# EAGLE library part BELA_CAPELET (library bela_capelet - Rebel Modified)
Should match A3 pinout - but not completely tested
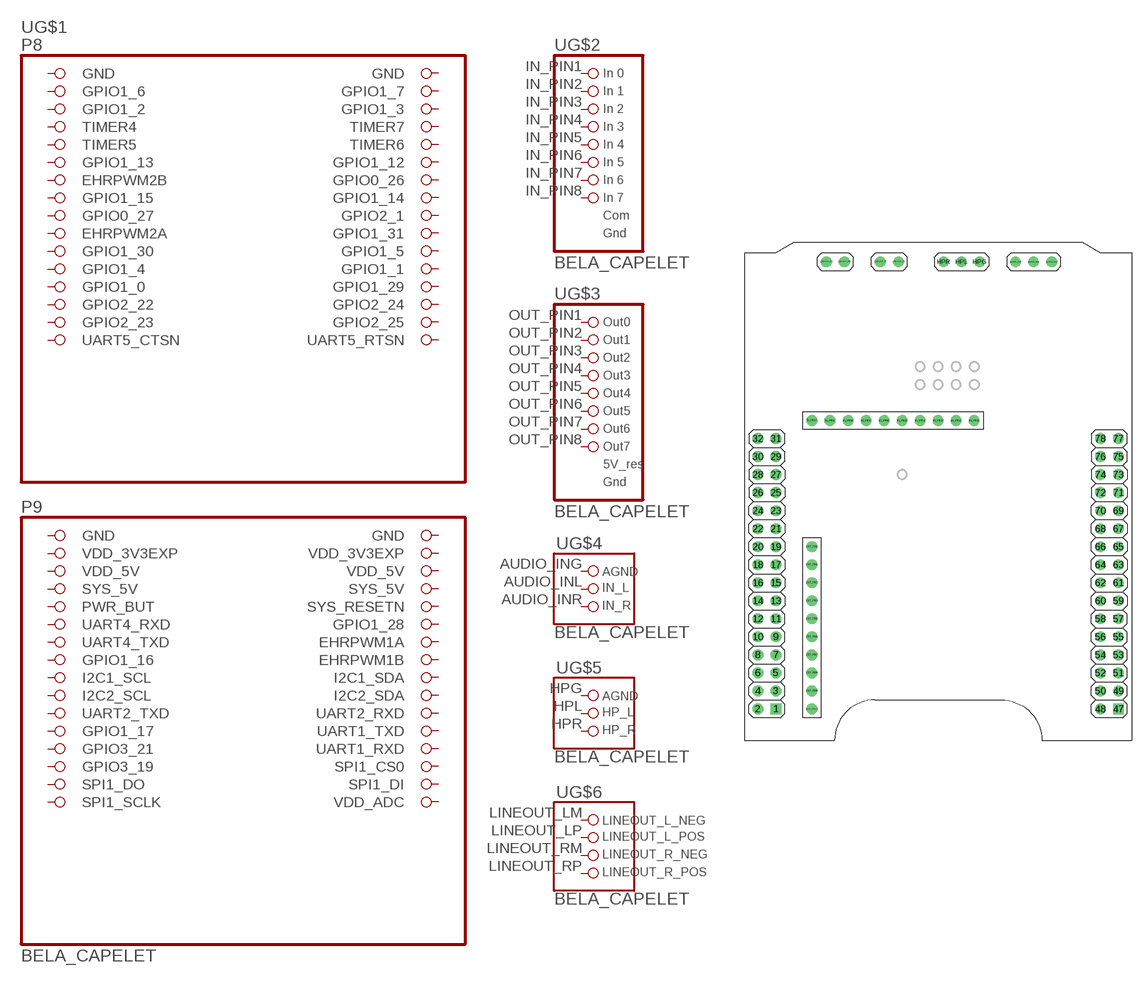
[diagram p0: symbol with the pads of BELA_CAPELET_EXTENDED_OUTLINE; footprint BELA_CAPELET_EXTENDED_OUTLINE]

Designator prefix -; gates G$1=BEAGLEBONE-1 G$2=BELA_ANALOGIN G$3=BELA_ANALOGOUT G$4=BELA_AUDIOIN G$5=BELA_HPOUT G$6=BELA_LINEOUT

## BELA_CAPELET_EXT_OUTLINE  [BELA_CAPELET_EXTENDED_OUTLINE]
1  G$1:GND  pwr
2  G$1:GND  pwr
3  G$1:GPIO1_6  pas
4  G$1:GPIO1_7  pas
5  G$1:GPIO1_2  pas
6  G$1:GPIO1_3  pas
7  G$1:TIMER4  pas
8  G$1:TIMER7  pas
9  G$1:TIMER5  pas
10  G$1:TIMER6  pas
11  G$1:GPIO1_13  pas
12  G$1:GPIO1_12  pas
13  G$1:EHRPWM2B  pas
14  G$1:GPIO0_26  pas
15  G$1:GPIO1_15  pas
16  G$1:GPIO1_14  pas
17  G$1:GPIO0_27  pas
18  G$1:GPIO2_1  pas
19  G$1:EHRPWM2A  pas
20  G$1:GPIO1_31  pas
21  G$1:GPIO1_30  pas
22  G$1:GPIO1_5  pas
23  G$1:GPIO1_4  pas
24  G$1:GPIO1_1  pas
25  G$1:GPIO1_0  pas
26  G$1:GPIO1_29  pas
27  G$1:GPIO2_22  pas
28  G$1:GPIO2_24  pas
29  G$1:GPIO2_23  pas
30  G$1:GPIO2_25  pas
31  G$1:UART5_CTSN  pas
32  G$1:UART5_RTSN  pas
47  G$1:GND  pwr
48  G$1:GND  pwr
49  G$1:VDD_3V3EXP  pwr
50  G$1:VDD_3V3EXP  pwr
51  G$1:VDD_5V  pwr
52  G$1:VDD_5V  pwr
53  G$1:SYS_5V  pwr
54  G$1:SYS_5V  pas
55  G$1:PWR_BUT  pas
56  G$1:SYS_RESETN  pas
57  G$1:UART4_RXD  pas
58  G$1:GPIO1_28  pas
59  G$1:UART4_TXD  pas
60  G$1:EHRPWM1A  pas
61  G$1:GPIO1_16  pas
62  G$1:EHRPWM1B  pas
63  G$1:I2C1_SCL  pas
64  G$1:I2C1_SDA  pas
65  G$1:I2C2_SCL  pas
66  G$1:I2C2_SDA  pas
67  G$1:UART2_TXD  pas
68  G$1:UART2_RXD  pas
69  G$1:GPIO1_17  pas
70  G$1:UART1_TXD  pas
71  G$1:GPIO3_21  pas
72  G$1:UART1_RXD  pas
73  G$1:GPIO3_19  pas
74  G$1:SPI1_CS0  pas
75  G$1:SPI1_DO  pas
76  G$1:SPI1_DI  pas
77  G$1:SPI1_SCLK  pas
78  G$1:VDD_ADC  pas
AUDIO_ING  G$4:1  pas
AUDIO_INL  G$4:2  pas
AUDIO_INR  G$4:3  pas
HPG  G$5:1  pas
HPL  G$5:2  pas
HPR  G$5:3  pas
IN_PIN1  G$2:1  pas
IN_PIN2  G$2:2  pas
IN_PIN3  G$2:3  pas
IN_PIN4  G$2:4  pas
IN_PIN5  G$2:5  pas
IN_PIN6  G$2:6  pas
IN_PIN7  G$2:7  pas
IN_PIN8  G$2:8  pas
LINEOUT_LM  G$6:1  pas
LINEOUT_LP  G$6:2  pas
LINEOUT_RM  G$6:3  pas
LINEOUT_RP  G$6:4  pas
OUT_PIN1  G$3:1  pas
OUT_PIN2  G$3:2  pas
OUT_PIN3  G$3:3  pas
OUT_PIN4  G$3:4  pas
OUT_PIN5  G$3:5  pas
OUT_PIN6  G$3:6  pas
OUT_PIN7  G$3:7  pas
OUT_PIN8  G$3:8  pas

## Footprint BELA_CAPELET_EXTENDED_OUTLINE (pad centres in mm)
drill 1 square: 1 2.54,16.51; 47 50.8,16.51
drill 1: 2 0,16.51; 3 2.54,19.05; 4 0,19.05; 5 2.54,21.59; 6 0,21.59; 7 2.54,24.13; 8 0,24.13; 9 2.54,26.67; 10 0,26.67; 11 2.54,29.21; 12 0,29.21; 13 2.54,31.75; 14 0,31.75; 15 2.54,34.29; 16 0,34.29; 17 2.54,36.83; 18 0,36.83; 19 2.54,39.37; 20 0,39.37; 21 2.54,41.91; 22 0,41.91; 23 2.54,44.45; 24 0,44.45; 25 2.54,46.99; 26 0,46.99; 27 2.54,49.53; 28 0,49.53; 29 2.54,52.07; 30 0,52.07; 31 2.54,54.61; 32 0,54.61; 48 48.26,16.51; 49 50.8,19.05; 50 48.26,19.05; 51 50.8,21.59; 52 48.26,21.59; 53 50.8,24.13; 54 48.26,24.13; 55 50.8,26.67; 56 48.26,26.67; 57 50.8,29.21; 58 48.26,29.21; 59 50.8,31.75; 60 48.26,31.75; 61 50.8,34.29; 62 48.26,34.29; 63 50.8,36.83; 64 48.26,36.83; 65 50.8,39.37; 66 48.26,39.37; 67 50.8,41.91; 68 48.26,41.91; 69 50.8,44.45; 70 48.26,44.45; 71 50.8,46.99; 72 48.26,46.99; 73 50.8,49.53; 74 48.26,49.53; 75 50.8,52.07; 76 48.26,52.07; 77 50.8,54.61; 78 48.26,54.61; AUDIO_ING 41.402,79.502; AUDIO_INL 38.862,79.502; AUDIO_INR 36.322,79.502; HPG 31.242,79.502; HPL 28.702,79.502; HPR 26.162,79.502; IN_PIN1 30.48,57.15; IN_PIN2 27.94,57.15; IN_PIN3 25.4,57.15; IN_PIN4 22.86,57.15; IN_PIN5 20.32,57.15; IN_PIN6 17.78,57.15; IN_PIN7 15.24,57.15; IN_PIN8 12.7,57.15; IN_PIN9 10.16,57.15; IN_PIN10 7.62,57.15; LINEOUT_LM 19.812,79.502; LINEOUT_LP 17.272,79.502; LINEOUT_RM 12.192,79.502; LINEOUT_RP 9.652,79.502; OUT_PIN1 7.62,39.37; OUT_PIN2 7.62,36.83; OUT_PIN3 7.62,34.29; OUT_PIN4 7.62,31.75; OUT_PIN5 7.62,29.21; OUT_PIN6 7.62,26.67; OUT_PIN7 7.62,24.13; OUT_PIN8 7.62,21.59; OUT_PIN9 7.62,19.05; OUT_PIN10 7.62,16.51